# Altium schematic symbol library Components - 20.09.24 - 12.14.SchLib: 1 symbol
Pins are listed as number, name and electrical type; pins without a type are passive.

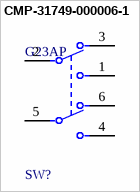
[diagram p0: symbol CMP-31749-000006-1]

## CMP-31749-000006-1
designator SW?, comment G23AP
SWITCH TOGGLE DPDT 0.4VA 28V; Contact Current Rating: 100mA; Illumination Type: Non-Illuminated; Actuator Type: Standard Round; Electrical Life: 100000Cycles; Actuator Length: 3.8mm; Insulation Resistance: 500MR; Power Rating: 400mW; Actuator Material: Nylon; Switch Function: On-Off-On; Contact Plating: Gold; Voltage Rating (DC): 28V; RoHS Compliant: Yes; Min Operating Temperature: -25°C; Length: 7mm; Orientation: Vertical; Mount: Through Hole; Max Operating Temperature: 85°C; Lead Free: Lead Free; Package Quantity: 1; Series: G; Termination: PC Pin; Depth: 4.5mm; Current Rating: 100mA; Throw Configuration: DPDT; Contact Material: Bronze; Housing Material: Polyamide; Max Current Rating: 100mA; Max Voltage Rating (DC): 28V; Max Voltage Rating (AC): 28V; Voltage Rating (AC): 28V; Packaging: Tray
footprint FP-G23AP-MFG
pins: 1, 2, 3, 4, 5, 6